# Altium footprint library uku20710_proc.PcbLib: 26 footprints (part 1 of 2)
Each footprint in its own frame and in the unit in brackets; x right, y up, seen from the top. Pads: shape width x height; smd on the part's side, far side on the other; paste and mask are expansions set on the pad; w line width, h text height; cw(c..) or ccw(c..) is an arc to the next point about the centre after c.
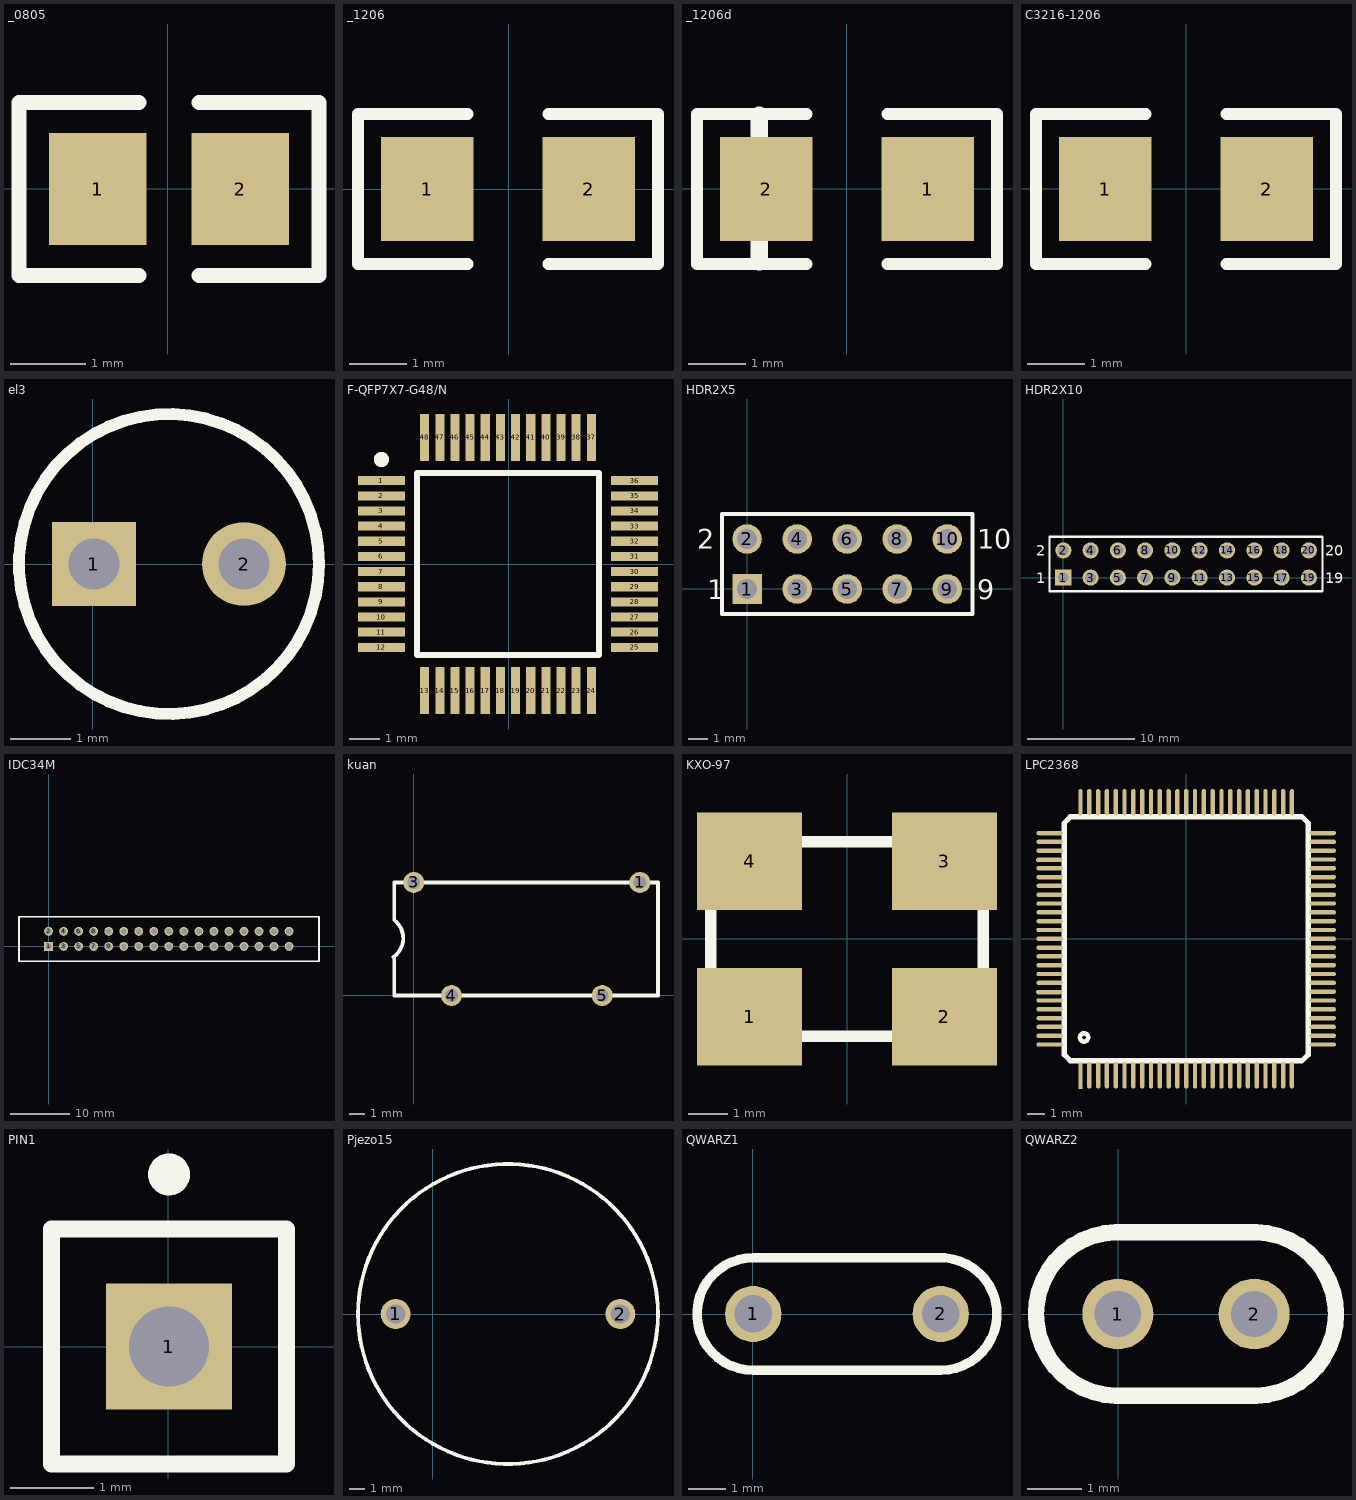
[diagram p0: the footprints below, top view; thin cyan lines are the x and y axes]

## _0805 [mm]
pads (2):
  rect 1.3x1.5 smd: 1(-0.934,-0.002) 2(0.966,-0.002)
Top Overlay:
  lines w0.2: -0.384,-1.152 -1.984,-1.152 -1.984,1.148 -0.384,1.148 ; 0.416,-1.152 2.016,-1.152 2.016,1.148 0.416,1.148

## _1206 [mm]
pads (2):
  rect 1.6x1.8 smd: 1(-1.41,0.006) 2(1.39,0.006)
Top Overlay:
  lines w0.2: -0.71,-1.294 -2.61,-1.294 -2.61,1.306 -0.71,1.306 ; 0.69,-1.294 2.59,-1.294 2.59,1.306 0.69,1.306

## _1206d [mm]
pads (2):
  rect 1.6x1.8 smd: 1(1.406,-0.006) 2(-1.394,-0.006)
Top Overlay:
  lines w0.2: -0.694,-1.306 -2.594,-1.306 -2.594,1.294 -0.694,1.294 ; 0.706,-1.306 2.606,-1.306 2.606,1.294 0.706,1.294
  lines w0.3: -1.513,-1.267 -1.513,1.273

## C3216-1206 [mm]
pads (2):
  rect 1.6x1.8 smd: 1(-1.403,-0.007) 2(1.397,-0.007)
Top Overlay:
  lines w0.2: -0.703,-1.307 -2.603,-1.307 -2.603,1.293 -0.703,1.293 ; 0.697,-1.307 2.597,-1.307 2.597,1.293 0.697,1.293

## el3 [mm]
pads (2):
  rect 1.4x1.4 hole 0.85: 1(0.022,0.001)
  round 1.4 hole 0.85: 2(2.522,0.001)
Top Overlay:
  circle w0.2: c1.272,0.001 r2.5
  lines w0.3: -0.378,0.001 0.422,0.001 ; 0.022,-0.399 0.022,0.401

## F-QFP7X7-G48/N [mm]
pads (48):
  rect 1.55x0.3 smd: 1(-4.203,2.759) 2(-4.203,2.259) 3(-4.203,1.759) 4(-4.203,1.259) 5(-4.203,0.759) 6(-4.203,0.259) 7(-4.203,-0.241) 8(-4.203,-0.741) 9(-4.203,-1.241) 10(-4.203,-1.741) 11(-4.203,-2.241) 12(-4.203,-2.741) 25(4.147,-2.741) 26(4.147,-2.241) 27(4.147,-1.741) 28(4.147,-1.241) 29(4.147,-0.741) 30(4.147,-0.241) 31(4.147,0.259) 32(4.147,0.759) 33(4.147,1.259) 34(4.147,1.759) 35(4.147,2.259) 36(4.147,2.759)
  rect 0.3x1.55 smd: 13(-2.778,-4.166) 14(-2.278,-4.166) 15(-1.778,-4.166) 16(-1.278,-4.166) 17(-0.778,-4.166) 18(-0.278,-4.166) 19(0.222,-4.166) 20(0.722,-4.166) 21(1.222,-4.166) 22(1.722,-4.166) 23(2.222,-4.166) 24(2.722,-4.166) 37(2.722,4.184) 38(2.222,4.184) 39(1.722,4.184) 40(1.222,4.184) 41(0.722,4.184) 42(0.222,4.184) 43(-0.278,4.184) 44(-0.778,4.184) 45(-1.278,4.184) 46(-1.778,4.184) 47(-2.278,4.184) 48(-2.778,4.184)
Top Overlay:
  circle w0.25: c-4.203,3.459 r0.125
  lines w0.2: -3.028,-2.991 -3.028,3.009 2.972,3.009 2.972,-2.991 -3.028,-2.991

## HDR2X5 [mm]
pads (10):
  rect 1.5x1.5 hole 1: 1(0.002,-0.002)
  round 1.5 hole 1: 2(0.002,2.538) 3(2.542,-0.002) 4(2.542,2.538) 5(5.082,-0.002) 6(5.082,2.538) 7(7.622,-0.002) 8(7.622,2.538) 9(10.162,-0.002) 10(10.162,2.538)
Top Overlay:
  lines w0.2: -1.268,-1.272 11.432,-1.272 11.432,3.808 -1.268,3.808 -1.268,-1.272
  text "10" at 11.686,2.03 h1
  text "9" at 11.686,-0.51 h1
  text "1" at -2.03,-0.51 h1
  text "2" at -2.538,2.03 h1

## HDR2X10 [mm]
pads (20):
  rect 1.5x1.5 hole 1: 1(-0.002,0.001)
  round 1.5 hole 1: 2(-0.002,2.541) 3(2.538,0.001) 4(2.538,2.541) 5(5.078,0.001) 6(5.078,2.541) 7(7.618,0.001) 8(7.618,2.541) 9(10.158,0.001) 10(10.158,2.541) 11(12.698,0.001) 12(12.698,2.541) 13(15.238,0.001) 14(15.238,2.541) 15(17.778,0.001) 16(17.778,2.541) 17(20.318,0.001) 18(20.318,2.541) 19(22.858,0.001) 20(22.858,2.541)
Top Overlay:
  lines w0.2: -1.272,-1.269 0.633,-1.269 24.128,-1.269 24.128,3.811 0.633,3.811 -1.272,3.811 -1.272,-1.269
  text "20" at 24.382,2.033 h1
  text "19" at 24.382,-0.507 h1
  text "1" at -2.542,-0.507 h1
  text "2" at -2.542,2.033 h1

## IDC34M [mm]
pads (34):
  rect 1.5x1.5 hole 1: 1(0.011,0.005)
  round 1.5 hole 1: 2(0.011,2.545) 3(2.551,0.005) 4(2.551,2.545) 5(5.091,0.005) 6(5.091,2.545) 7(7.631,0.005) 8(7.631,2.545) 9(10.171,0.005) 10(10.171,2.545) 11(12.711,0.005) 12(12.711,2.545) 13(15.251,0.005) 14(15.251,2.545) 15(17.791,0.005) 16(17.791,2.545) 17(20.331,0.005) 18(20.331,2.545) 19(22.871,0.005) 20(22.871,2.545) 21(25.411,0.005) 22(25.411,2.545) 23(27.951,0.005) 24(27.951,2.545) 25(30.491,0.005) 26(30.491,2.545) 27(33.031,0.005) 28(33.031,2.545) 29(35.571,0.005) 30(35.571,2.545) 31(38.111,0.005) 32(38.111,2.545) 33(40.651,0.005) 34(40.651,2.545)
Top Overlay:
  lines w0.254: 27.811,5.005 45.711,5.005 45.711,-2.495 27.911,-2.495 -4.989,-2.495 -4.989,5.005 27.911,5.005

## kuan [mm]
pads (4):
  round 1.4 hole 0.85: 1(15.008,7.497) 3(0.008,7.497) 4(2.508,-0.003) 5(12.508,-0.003)
Top Overlay:
  lines w0.254: -1.338,2.564 ccw(c-2.192,3.797) -1.292,4.997 -1.292,7.497 0.008,7.497 15.008,7.497 16.208,7.497 16.208,-0.003 15.008,-0.003 0.008,-0.003 -1.292,-0.003 -1.292,2.497

## KXO-97 [mm]
pads (4):
  rect 2.7x2.5 smd: 1(-2.504,-2.006) 2(2.496,-2.006) 3(2.496,1.994) 4(-2.504,1.994)
Top Overlay:
  lines w0.3: -3.504,-2.506 -3.504,-0.006 -3.504,2.494 -0.004,2.494 3.496,2.494 3.496,-0.006 3.496,-2.506 -0.004,-2.506 -3.504,-2.506

## LPC2368 [mm]
pads (100):
  rect 0.25x1.5 smd: 1(-5.993,-7.766)
  oval 0.25x1.5 smd: 2(-5.493,-7.741) 3(-4.993,-7.741) 4(-4.493,-7.741) 5(-3.993,-7.741) 6(-3.493,-7.741) 7(-2.993,-7.741) 8(-2.493,-7.741) 9(-1.993,-7.741) 10(-1.493,-7.741) 11(-0.993,-7.741) 12(-0.493,-7.741) 13(0.007,-7.741) 14(0.507,-7.741) 15(1.007,-7.741) 16(1.507,-7.741) 17(2.007,-7.741) 18(2.507,-7.741) 19(3.007,-7.741) 20(3.507,-7.741) 21(4.007,-7.741) 22(4.507,-7.741) 23(5.007,-7.741) 24(5.507,-7.741) 25(6.007,-7.741) 51(6.007,7.759) 52(5.507,7.759) 53(5.007,7.759) 54(4.507,7.759) 55(4.007,7.759) 56(3.507,7.759) 57(3.007,7.759) 58(2.507,7.759) 59(2.007,7.759) 60(1.507,7.759) 61(1.007,7.759) 62(0.507,7.759) 63(0.007,7.759) 64(-0.493,7.759) 65(-0.993,7.759) 66(-1.493,7.759) 67(-1.993,7.759) 68(-2.493,7.759) 69(-2.993,7.759) 70(-3.493,7.759) 71(-3.993,7.759) 72(-4.493,7.759) 73(-4.993,7.759) 74(-5.493,7.759) 75(-5.993,7.759)
  oval 1.5x0.25 smd: 26(7.757,-5.991) 27(7.757,-5.491) 28(7.757,-4.991) 29(7.757,-4.491) 30(7.757,-3.991) 31(7.757,-3.491) 32(7.757,-2.991) 33(7.757,-2.491) 34(7.757,-1.991) 35(7.757,-1.491) 36(7.757,-0.991) 37(7.757,-0.491) 38(7.757,0.009) 39(7.757,0.509) 40(7.757,1.009) 41(7.757,1.509) 42(7.757,2.009) 43(7.757,2.509) 44(7.757,3.009) 45(7.757,3.509) 46(7.757,4.009) 47(7.757,4.509) 48(7.757,5.009) 49(7.757,5.509) 50(7.757,6.009) 76(-7.743,6.009) 77(-7.743,5.509) 78(-7.743,5.009) 79(-7.768,4.484) 80(-7.743,4.009) 81(-7.743,3.509) 82(-7.743,3.009) 83(-7.743,2.509) 84(-7.743,2.009) 85(-7.743,1.509) 86(-7.743,1.009) 87(-7.743,0.509) 88(-7.743,0.009) 89(-7.743,-0.491) 90(-7.743,-0.991) 91(-7.743,-1.491) 92(-7.743,-1.991) 93(-7.743,-2.491) 94(-7.768,-3.016) 95(-7.743,-3.491) 96(-7.743,-3.991) 97(-7.743,-4.491) 98(-7.743,-4.991) 99(-7.743,-5.491) 100(-7.743,-5.991)
Top Overlay:
  circle w0.254: c-5.793,-5.591 r0.236
  lines w0.3: -6.918,-6.466 -6.918,0.009 -6.918,6.559 ; -6.918,-6.416 -6.918,-6.566 -6.568,-6.916 -6.543,-6.916 0.007,-6.916 6.482,-6.916 ; -6.918,6.584 -6.568,6.934 ; -6.468,6.934 0.007,6.934 6.557,6.934 ; 6.582,-6.916 6.932,-6.566 ; 6.582,6.934 6.932,6.584 ; 6.932,-6.541 6.932,0.009 6.932,6.484

## PIN1 [mm]
pads (1):
  rect 1.5x1.5 hole 0.95: 1(0.012,0.004)
Top Overlay:
  circle w0.25: c0.012,2.054 r0.125
  lines w0.2: -1.388,-1.396 -1.388,1.404 1.412,1.404 1.412,-1.396 -1.388,-1.396

## Pjezo15 [mm]
pads (2):
  round 2 hole 1.3: 1(-2.493,0.005) 2(12.507,0.005)
Top Overlay:
  circle w0.254: c5.007,0.005 r10.012

## QWARZ1 [mm]
pads (2):
  round 1.5 hole 1: 1(0.017,0.002) 2(5.017,0.002)
Top Overlay:
  lines w0.254: 4.917,1.499 cw(c5.017,0.002) 5.017,-1.498 0.017,-1.498 cw(c0.017,0.002) 0.017,1.502 5.017,1.502

## QWARZ2 [mm]
pads (2):
  round 1.3 hole 0.85: 1(-0.009,0.006) 2(2.491,0.006)
Top Overlay:
  lines w0.3: -0.049,-1.494 cw(c-0.009,0.006) -0.049,1.506 2.531,1.506 cw(c2.491,0.006) 2.531,-1.494 -0.049,-1.494